# Altium schematic symbol library Misc.SchLib: 5 symbols
Pins are listed as number, name and electrical type; pins without a type are passive.

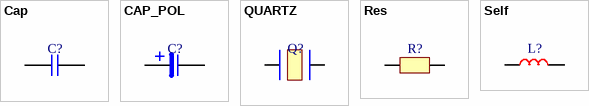
[diagram p0: symbols Cap to Self]

## Cap
designator C?
footprint 0603
footprint 0402
footprint 0805
pins: 1, 2

## CAP_POL
designator C?  (value not drawn)
pins: 1, 2

## QUARTZ
designator Q?  (value not drawn)
pins: 1, 2

## Res
designator R?  (value not drawn)
footprint 0402
pins: 1, 2

## Self
designator L?
pins: 1, 2